# Altium footprint library JACK_DC-140-0.PcbLib: 1 footprints
Each footprint in its own frame and in the unit in brackets; x right, y up, seen from the top. Pads: shape width x height; smd on the part's side, far side on the other; paste and mask are expansions set on the pad; w line width, h text height; cw(c..) or ccw(c..) is an arc to the next point about the centre after c.
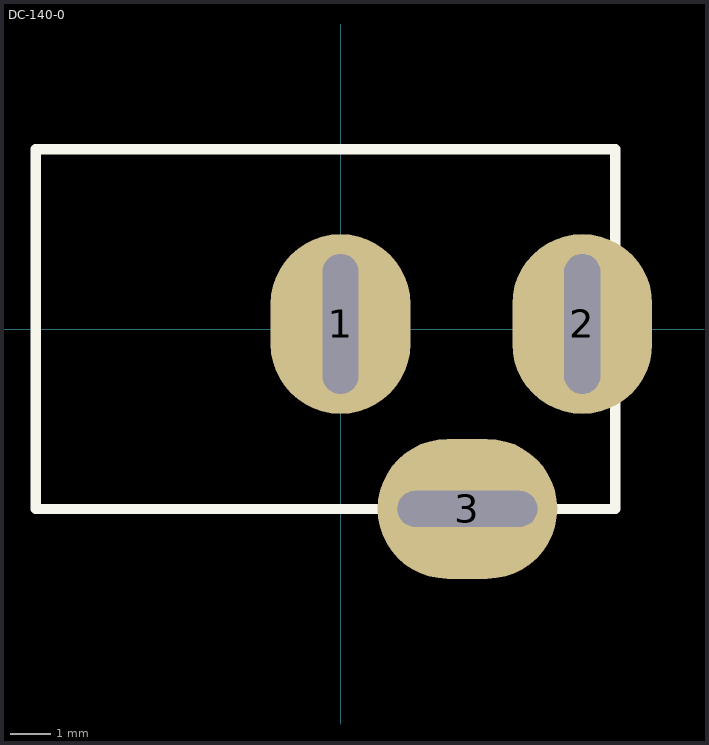
[diagram p0: the footprint, top view; thin cyan lines are the x and y axes]

## DC-140-0 [mm]
pads (3):
  oval 3.5x4.5 hole 0.9 slot 3.5 at 90 deg unplated: 1(0,0.127) 2(6.05,0.127)
  oval 4.5x3.5 hole 0.9 slot 3.5 at 0 deg unplated: 3(3.175,-4.5)
Top Overlay:
  lines w0.254: -7.625,-4.5 -7.625,4.5 6.875,4.5 6.875,-4.5 -7.625,-4.5
3D body "User Library-Cliff FC68149 DC PCB Socket.step": height 11, standoff -3.5, extent -7.515,-4.875 6.985,4.875